# Altium schematic symbol library my_lib.SchLib: 17 symbols
Pins are listed as number, name and electrical type; pins without a type are passive.

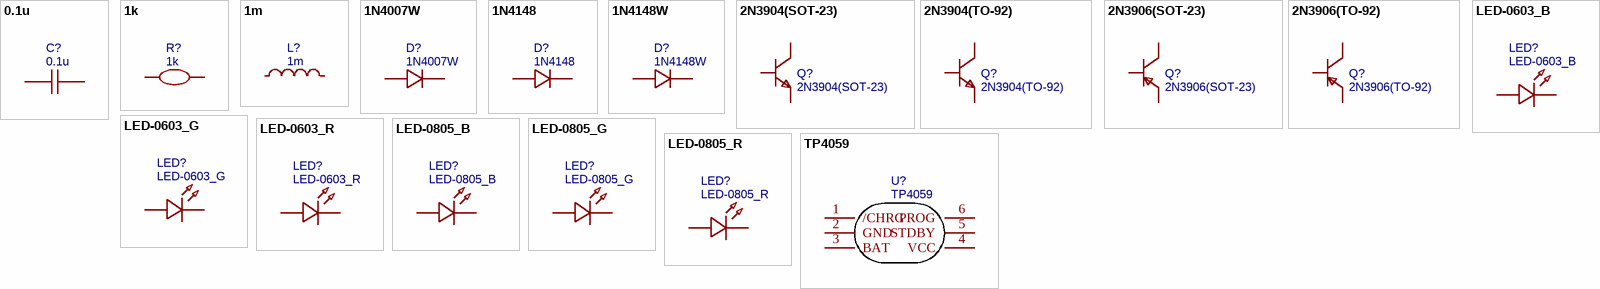
[diagram p0: symbols 0.1u to TP4059]

## 0.1u
designator C?
nameAlias: Value(F); Contributor: LCEDA_Lib; spicePre: C; spiceSymbolName: C_0603_US
footprint C0603
footprint C0201
footprint C0402
footprint C0805
footprint C1206
footprint RAD-0.1
footprint RAD-0.2
pins: 1, 2

## 1k
designator R?
Contributor: LCEDA_Lib; spicePre: R; spiceSymbolName: R_0603_EU
footprint R0603
footprint R0201
footprint R0402
footprint R0805
footprint R1206
footprint R1210
footprint R1812
footprint R2010
footprint R2512
pins: 1, 2

## 1m
designator L?
nameAlias: Value(H); Contributor: LCEDA_Lib; spicePre: L; spiceSymbolName: L0603_US
footprint L0603
footprint L0402
footprint L0805
pins: 1, 2

## 1N4007W
designator D?
BOM_Manufacturer: BLUE ROCKET; Contributor: LCEDA_Lib; BOM_Supplier: LCSC; BOM_Supplier Part: C328592; BOM_Manufacturer Part: 1N4007W; spicePre: D; spiceSymbolName: 1N4007W
footprint SOD-123_L2.8-W1.8-LS3.7-RD
pins: 1, 2

## 1N4148
designator D?
BOM_Manufacturer: SEMTECH; Contributor: LCEDA_Lib; BOM_Supplier: LCSC; BOM_Manufacturer Part: 1N4148; BOM_Supplier Part: C14516; spicePre: D; spiceSymbolName: 1N4148
footprint DO-35_BD2.0-L4.0-P8.00-D0.5-FD
pins: 1, 2

## 1N4148W
designator D?
BOM_Manufacturer: Tak Cheong; Contributor: LCEDA_Lib; BOM_Supplier: LCSC; BOM_Manufacturer Part: 1N4148W; BOM_Supplier Part: C129216; spicePre: D; spiceSymbolName: 1N4148W
footprint SOD-123FL_L2.6-W1.6-LS3.4-RD
pins: 1, 2

## 2N3904(SOT-23)
designator Q?
BOM_Manufacturer: KEC; BOM_Manufacturer Part: 2n3904S-RTK/PS; Contributor: LCEDA_Lib; BOM_Supplier: LCSC; BOM_Supplier Part: C18536; BOM_Paste Type: SOT-23; spicePre: Q; spiceSymbolName: 2N3904(SOT-23)
footprint SOT-23-3_L2.9-W1.3-P1.90-LS2.4-TR
pins: 1 E, 2 B, 3 C

## 2N3904(TO-92)
designator Q?
BOM_Manufacturer: SEMTECH; Contributor: LCEDA_Lib; BOM_Supplier: LCSC; BOM_Manufacturer Part: 2N3904; BOM_Supplier Part: C118538; spicePre: Q; spiceSymbolName: 2N3904(TO-92)
footprint TO-92-3_L5.1-W4.1-P1.27-L
pins: 1 E, 2 B, 3 C

## 2N3906(SOT-23)
designator Q?
BOM_Manufacturer: KEC; BOM_Manufacturer Part: 2N3906S-RTK/PS; Contributor: LCEDA_Lib; BOM_Supplier: LCSC; BOM_Supplier Part: C147294; spicePre: Q; spiceSymbolName: 2N3906(SOT-23)
footprint SOT-23-3_L2.9-W1.6-P1.90-LS2.8-TR-CW
pins: 1 E, 2 B, 3 C

## 2N3906(TO-92)
designator Q?
BOM_Manufacturer: CJ; Contributor: LCEDA_Lib; BOM_Supplier: LCSC; BOM_Manufacturer Part: 2N3906; BOM_Supplier Part: C9809; spicePre: Q; spiceSymbolName: 2N3906(TO-92)
footprint TO-92-3_L4.9-W3.7-P1.27-L
pins: 1 E, 2 B, 3 C

## LED-0603_B
designator LED?
BOM_Manufacturer Part: 19-217/BHC-ZL1M2RY/3T; Contributor: LCEDA_01; BOM_Supplier Part: C72041; BOM_Supplier: LCSC; spicePre: L; spiceSymbolName: LED-0603_B
footprint LED0603_BLUE
pins: 1, 2

## LED-0603_G
designator LED?
BOM_Manufacturer Part: 19-217/GHC-YR1S2/3T; Contributor: LCEDA_Lib; BOM_Supplier Part: C72043; BOM_Supplier: LCSC; spicePre: L; spiceSymbolName: LED-0603_G
footprint LED0603_GREEN
pins: 1, 2

## LED-0603_R
designator LED?
BOM_Manufacturer Part: 19-217/R6C-AL1M2VY/3T; Contributor: LCEDA_01; BOM_Supplier Part: C72044; BOM_Supplier: LCSC; spicePre: L; spiceSymbolName: LED-0603_R
footprint LED0603_RED
pins: 1, 2

## LED-0805_B
designator LED?
BOM_Manufacturer Part: D-B080508B1-KS2; Contributor: LCEDA_Lib; BOM_Supplier Part: C108412; spicePre: L; spiceSymbolName: LED-0805_B
footprint LED0805_BLUE
pins: 1, 2

## LED-0805_G
designator LED?
BOM_Manufacturer Part: NCD0805G1; Contributor: LCEDA_Lib; BOM_Supplier Part: C84260; spicePre: L; spiceSymbolName: LED-0805_G
footprint LED0805_GREEN
pins: 1, 2

## LED-0805_R
designator LED?
BOM_Manufacturer Part: 17-21SURC/S530-A3/TR8; Contributor: LCEDA_Lib; BOM_Supplier Part: C72037; spicePre: L; spiceSymbolName: LED-0805_R
footprint LED0805_RED
pins: 1, 2

## TP4059
designator U?
BOM_Manufacturer: TOPPOWER; BOM_Supplier: LCSC; BOM_Manufacturer Part: TP4059; BOM_Supplier Part: C80364; BOM_JLCPCB Part Class: Extended Part; spicePre: U; spiceSymbolName: TP4059
footprint SOT-23-6_L2.9-W1.6-P0.95-LS2.8-BR
pins: 1 /CHRG, 2 GND, 3 BAT, 4 VCC, 5 STDBY, 6 PROG